# Altium schematic symbol library GT_4SBalancer.SchLib: 1 symbol
Pins are listed as number, name and electrical type; pins without a type are passive.

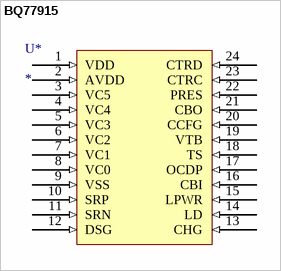
[diagram p0: symbol BQ77915]

## BQ77915
designator U*
footprint BQ77915 (TSSOP-24)
pins: 1 VDD (in), 2 AVDD (in), 3 VC5 (in), 4 VC4 (in), 5 VC3 (in), 6 VC2 (in), 7 VC1 (in), 8 VC0 (in), 9 VSS (in), 10 SRP (in), 11 SRN (in), 12 DSG (in), 13 CHG (in), 14 LD (in), 15 LPWR (in), 16 CBI (in), 17 OCDP (in), 18 TS (in), 19 VTB (in), 20 CCFG (in), 21 CBO (in), 22 PRES (in), 23 CTRC (in), 24 CTRD (in)